# Altium schematic symbol library connectors.SchLib: 4 symbols
Pins are listed as number, name and electrical type; pins without a type are passive.

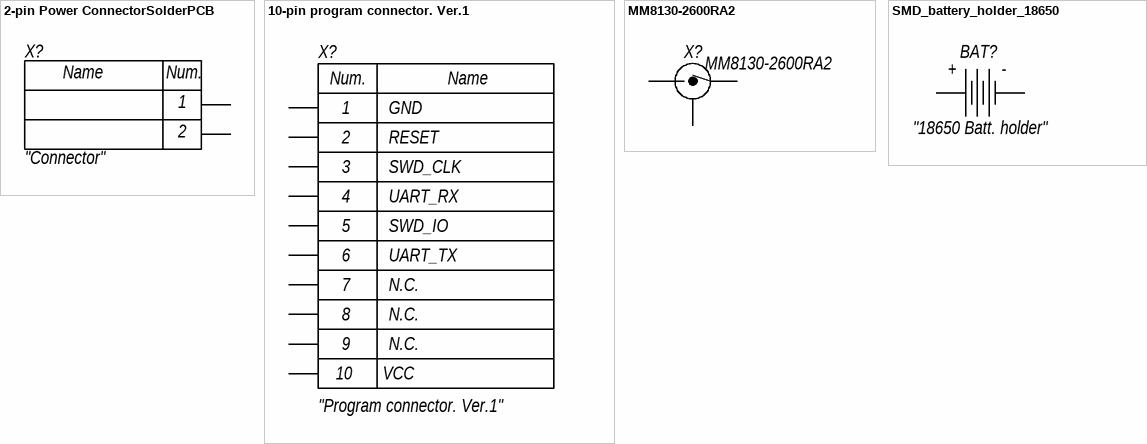
[diagram p0: symbols 2-pin Power ConnectorSolderPCB to SMD_battery_holder_18650]

## 2-pin Power ConnectorSolderPCB
designator X?, comment "Connector"
Power connector. Solder on PCB.; Manufacturer: *; Mfg. Part Number: *; Help URL: *; Power/Voltage: *; Type: *; Value: *; Tolerance: *; Operation Temperature: *; Note: *; Case: *
footprint 2-pin PCB power
pins: 1 (power), 2 (power)
text: Name; Num.

## 10-pin program connector. Ver.1
designator X?, comment "Program connector. Ver.1"
10-pin custom fixed layout program and debug connector.; Manufacturer: *; Mfg. Part Number: *; Help URL: *; Power/Voltage: *; Type: *; Value: *; Tolerance: *; Operation Temperature: *; Note: *; Case: *
footprint 10-pin 2.54mm TH
pins: 1 GND (power), 2 RESET (power), 3 SWD_CLK (power), 4 UART_RX (power), 5 SWD_IO (power), 6 UART_TX (power), 7 N.C. (power), 8 N.C. (power), 9 N.C. (power), 10 VCC (power)
text: Num.; Name

## MM8130-2600RA2
designator X?
SWF Connector Receptacle, Female Socket 50Ohm Surface Mount Solder; Manufacturer: Murata Electronics; Power/Voltage: 30V; Operation Temperature: -40...+85; Note: Internal switch; Freq Max: 6 GHz; Mfg. Part Number: MM8130-2600RA2; Help URL: https://www.digikey.com/en/products/detail/murata-electronics/MM8130-2600RA2/1775922; Type: battery holder; Value: *; Tolerance: *; Case: *; Impedance: 50 Ohm; Style: SWF; Type: Recepacle, Female socket
footprint COAXIAL-SWF
pins: 1 IN (power), 2 Shield (power), 3 OUT (power)

## SMD_battery_holder_18650
designator BAT?, comment "18650 Batt. holder"
Battery holder 18650 SMD.; Manufacturer: Keystone Electronics; Mfg. Part Number: 1042; Operation Temperature: -50...+145; Help URL: https://www.digikey.com/en/products/detail/keystone-electronics/1042/2745668; Power/Voltage: *; Type: battery holder; Value: *; Tolerance: *; Note: *; Case: 18650
footprint 18650_smd_keystone_1042
pins: 1 (power), 2 (power)
text: +; -